# Altium footprint library CC2652PSIP.PcbLib: 1 footprints
Each footprint in its own frame and in the unit in brackets; x right, y up, seen from the top. Pads: shape width x height; smd on the part's side, far side on the other; paste and mask are expansions set on the pad; w line width, h text height; cw(c..) or ccw(c..) is an arc to the next point about the centre after c.
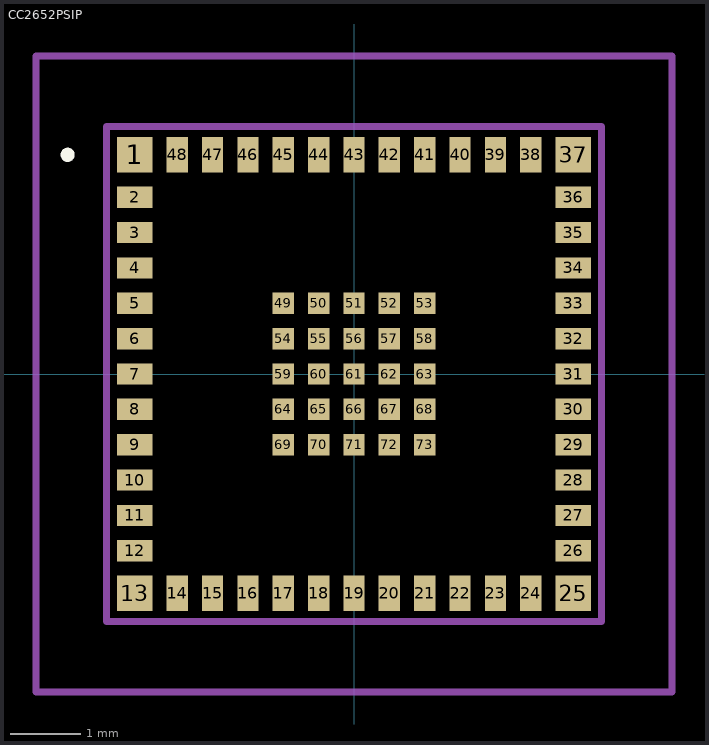
[diagram p0: the footprint, top view; thin cyan lines are the x and y axes]

## CC2652PSIP [mm]
pads (73):
  rect 0.5x0.5 smd: 1(-3.1,3.1) 13(-3.1,-3.1) 25(3.1,-3.1) 37(3.1,3.1)
  rect 0.5x0.3 smd: 2(-3.1,2.5) 3(-3.1,2) 4(-3.1,1.5) 5(-3.1,1) 6(-3.1,0.5) 7(-3.1,0) 8(-3.1,-0.5) 9(-3.1,-1) 10(-3.1,-1.5) 11(-3.1,-2) 12(-3.1,-2.5) 26(3.1,-2.5) 27(3.1,-2) 28(3.1,-1.5) 29(3.1,-1) 30(3.1,-0.5) 31(3.1,0) 32(3.1,0.5) 33(3.1,1) 34(3.1,1.5) 35(3.1,2) 36(3.1,2.5)
  rect 0.3x0.5 smd: 14(-2.5,-3.1) 15(-2,-3.1) 16(-1.5,-3.1) 17(-1,-3.1) 18(-0.5,-3.1) 19(0,-3.1) 20(0.5,-3.1) 21(1,-3.1) 22(1.5,-3.1) 23(2,-3.1) 24(2.5,-3.1) 38(2.5,3.1) 39(2,3.1) 40(1.5,3.1) 41(1,3.1) 42(0.5,3.1) 43(0,3.1) 44(-0.5,3.1) 45(-1,3.1) 46(-1.5,3.1) 47(-2,3.1) 48(-2.5,3.1)
  rect 0.3x0.3 smd: 49(-1,1) 50(-0.5,1) 51(0,1) 52(0.5,1) 53(1,1) 54(-1,0.5) 55(-0.5,0.5) 56(0,0.5) 57(0.5,0.5) 58(1,0.5) 59(-1,0) 60(-0.5,0) 61(0,0) 62(0.5,0) 63(1,0) 64(-1,-0.5) 65(-0.5,-0.5) 66(0,-0.5) 67(0.5,-0.5) 68(1,-0.5) 69(-1,-1) 70(-0.5,-1) 71(0,-1) 72(0.5,-1) 73(1,-1)
Top Overlay:
  lines w0.1: -4.1,3.1 -4.1,3.1 ; -4.1,3.1 ccw(c-4.05,3.1) -4,3.1 ; -4.1,3.1 cw(c-4.05,3.1) -4,3.1 ; -4,3.1 -4,3.1
Mechanical 15:
  lines w0.1: -3.5,-3.5 3.5,-3.5 3.5,3.5 -3.5,3.5 -3.5,-3.5
Mechanical 20:
  lines w0.1: -4.5,-4.5 4.5,-4.5 4.5,4.5 -4.5,4.5 -4.5,-4.5